# Altium schematic symbol library Other_Passive.SchLib: 2 symbols
Pins are listed as number, name and electrical type; pins without a type are passive.

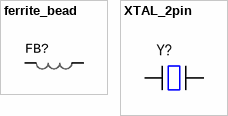
[diagram p0: symbols ferrite_bead to XTAL_2pin]

## ferrite_bead
designator FB?  (value not drawn)
Resistance 100 MHz: *
footprint 0402_FERRITE (Resistor\Capasitor)
footprint 1210_FERRITE (Resistor\Capasitor)
pins: 1, 2

## XTAL_2pin
designator Y?  (value not drawn)
footprint qurtz_2x6
footprint qurtz_3x8
footprint HC-49_SMD (HC-49 (U-S) package resonator)
pins: 1, 2